# EAGLE library part HMC849ALP4CETR (library custom_dzmitry)
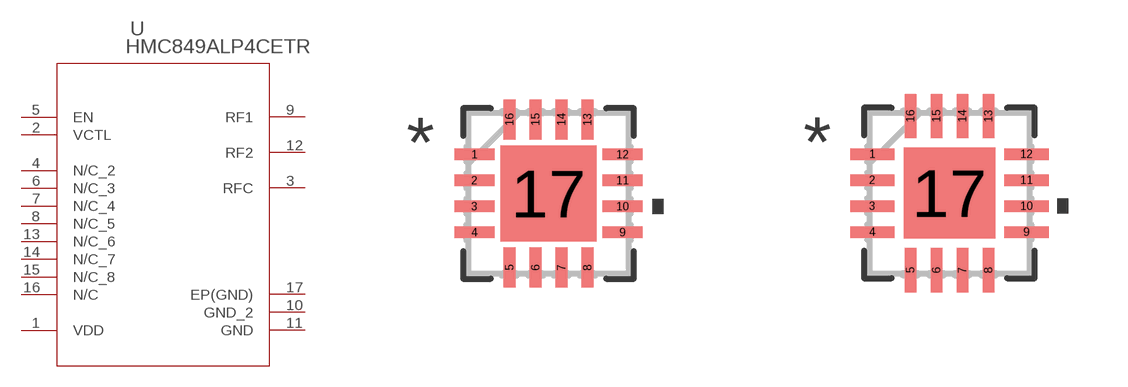
[diagram p2: symbol with the pads of CP_16_40_ADI; footprints CP_16_40_ADI, CP_16_40_ADI-M]

Designator prefix U

## HMC849ALP4CETR (BUILT_BY: Analog Devices Imc.; MANUFACTURER_PART_NUMBER: HMC849ALP4CETR; SOURCELIBRARY: Analog_2018-01-18; VENDOR: Analog Devices Inc)  [CP_16_40_ADI]
1  VDD  pas
2  VCTL  pas
3  RFC  pas
4  N/C_2  pas
5  EN  pas
6  N/C_3  pas
7  N/C_4  pas
8  N/C_5  pas
9  RF1  pas
10  GND_2  pas
11  GND  pas
12  RF2  pas
13  N/C_6  pas
14  N/C_7  pas
15  N/C_8  pas
16  N/C  pas
17  EP(GND)  pas

## HMC849ALP4CETRCP_16_40_ADI-M (BUILT_BY: Analog Devices Imc.; MANUFACTURER_PART_NUMBER: HMC849ALP4CETR; SOURCELIBRARY: Analog_2018-01-18; VENDOR: Analog Devices Inc)  [CP_16_40_ADI-M]
Pads as for CP_16_40_ADI

## HMC849ALP4CETRCP_16_40_ADI-L (BUILT_BY: Analog Devices Imc.; MANUFACTURER_PART_NUMBER: HMC849ALP4CETR; SOURCELIBRARY: Analog_2018-01-18; VENDOR: Analog Devices Inc)  [CP_16_40_ADI-L]
Pads as for CP_16_40_ADI

## Footprint CP_16_40_ADI (pad centres in mm)
smd 1.005 x 0.288: 1 -1.852,0.975; 2 -1.852,0.325; 3 -1.852,-0.325; 4 -1.852,-0.975; 9 1.852,-0.975; 10 1.852,-0.325; 11 1.852,0.325; 12 1.852,0.975
smd 0.288 x 1.005: 5 -0.975,-1.852; 6 -0.325,-1.852; 7 0.325,-1.852; 8 0.975,-1.852; 13 0.975,1.852; 14 0.325,1.852; 15 -0.325,1.852; 16 -0.975,1.852
smd 2.4 x 2.4: 17 0,0

## Footprint CP_16_40_ADI-M (pad centres in mm)
smd 1.106 x 0.288: 1 -1.929,0.975; 2 -1.929,0.325; 3 -1.929,-0.325; 4 -1.929,-0.975; 9 1.929,-0.975; 10 1.929,-0.325; 11 1.929,0.325; 12 1.929,0.975
smd 0.288 x 1.106: 5 -0.975,-1.929; 6 -0.325,-1.929; 7 0.325,-1.929; 8 0.975,-1.929; 13 0.975,1.929; 14 0.325,1.929; 15 -0.325,1.929; 16 -0.975,1.929
smd 2.286 x 2.286: 17 0,0

## Footprint CP_16_40_ADI-L (pad centres in mm)
smd 0.903 x 0.288: 1 -1.802,0.975; 2 -1.802,0.325; 3 -1.802,-0.325; 4 -1.802,-0.975; 9 1.802,-0.975; 10 1.802,-0.325; 11 1.802,0.325; 12 1.802,0.975
smd 0.288 x 0.903: 5 -0.975,-1.802; 6 -0.325,-1.802; 7 0.325,-1.802; 8 0.975,-1.802; 13 0.975,1.802; 14 0.325,1.802; 15 -0.325,1.802; 16 -0.975,1.802
smd 2.4 x 2.4: 17 0,0